# Altium footprint library lib_lattice.PcbLib: 3 footprints
Each footprint in its own frame and in the unit in brackets; x right, y up, seen from the top. Pads: shape width x height; smd on the part's side, far side on the other; paste and mask are expansions set on the pad; w line width, h text height; cw(c..) or ccw(c..) is an arc to the next point about the centre after c.
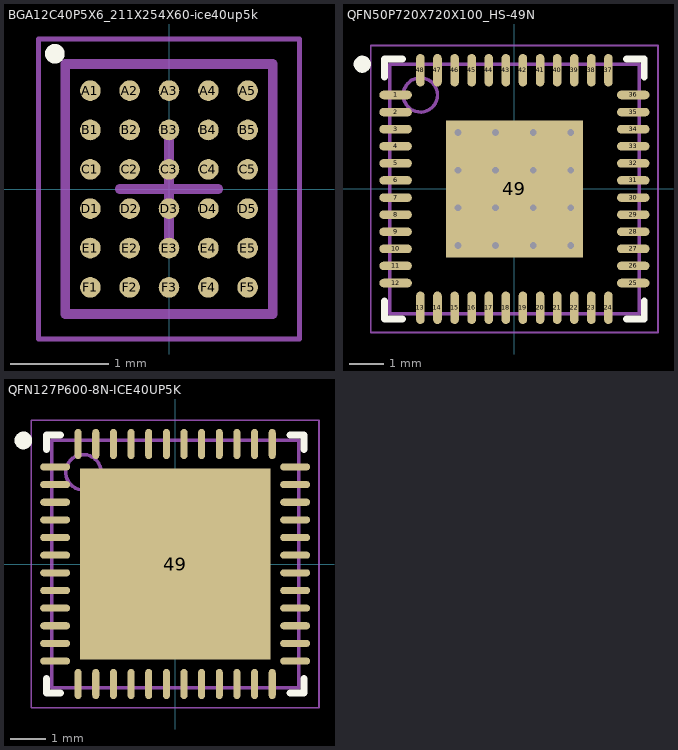
[diagram p0: the footprints below, top view; thin cyan lines are the x and y axes]

## BGA12C40P5X6_211X254X60-ice40up5k [mm] "BGA, 12-Leads, Body 2,11x2,54mmx0,60mm, Pitch 0,40mm"
height 0.6
pads (30):
  round 0.21 smd: A1(-0.8,1) A2(-0.4,1) A3(0,1) A4(0.4,1) A5(0.8,1) B1(-0.8,0.6) B2(-0.4,0.6) B3(0,0.6) B4(0.4,0.6) B5(0.8,0.6) C1(-0.8,0.2) C2(-0.4,0.2) C3(0,0.2) C4(0.4,0.2) C5(0.8,0.2) D1(-0.8,-0.2) D2(-0.4,-0.2) D3(0,-0.2) D4(0.4,-0.2) D5(0.8,-0.2) E1(-0.8,-0.6) E2(-0.4,-0.6) E3(0,-0.6) E4(0.4,-0.6) E5(0.8,-0.6) F1(-0.8,-1) F2(-0.4,-1) F3(0,-1) F4(0.4,-1) F5(0.8,-1)
Top Overlay:
  circle w0.1: c-1.16,1.375 r0.05
Mechanical 13:
  lines w0.1: -1.055,-1.27 -1.055,1.27 1.055,1.27 1.055,-1.27 -1.055,-1.27
Mechanical 15:
  lines w0.05: -1.325,-1.525 -1.325,1.525 1.325,1.525 1.325,-1.525 -1.325,-1.525
  lines w0.1: -0.5,0 0.5,0 ; 0,-0.5 0,0.5
3D body "BGA12C40P5X6_211X254X60.step": height 0.6, standoff 0, extent -1.055,-1.27 1.055,1.27

## QFN50P720X720X100_HS-49N [mm] "QFN, 48-Leads, Body 7,20x7,20mm, Pitch 0,50mm, Thermal Pad 4,00x4,00mm, IPC Medium Density"
height 1
pads (49):
  oval 0.95x0.25 smd: 1(-3.475,2.75) 2(-3.475,2.25) 3(-3.475,1.75) 4(-3.475,1.25) 5(-3.475,0.75) 6(-3.475,0.25) 7(-3.475,-0.25) 8(-3.475,-0.75) 9(-3.475,-1.25) 10(-3.475,-1.75) 11(-3.475,-2.25) 12(-3.475,-2.75) 25(3.475,-2.75) 26(3.475,-2.25) 27(3.475,-1.75) 28(3.475,-1.25) 29(3.475,-0.75) 30(3.475,-0.25) 31(3.475,0.25) 32(3.475,0.75) 33(3.475,1.25) 34(3.475,1.75) 35(3.475,2.25) 36(3.475,2.75)
  oval 0.25x0.95 smd: 13(-2.75,-3.475) 14(-2.25,-3.475) 15(-1.75,-3.475) 16(-1.25,-3.475) 17(-0.75,-3.475) 18(-0.25,-3.475) 19(0.25,-3.475) 20(0.75,-3.475) 21(1.25,-3.475) 22(1.75,-3.475) 23(2.25,-3.475) 24(2.75,-3.475) 37(2.75,3.475) 38(2.25,3.475) 39(1.75,3.475) 40(1.25,3.475) 41(0.75,3.475) 42(0.25,3.475) 43(-0.25,3.475) 44(-0.75,3.475) 45(-1.25,3.475) 46(-1.75,3.475) 47(-2.25,3.475) 48(-2.75,3.475)
  rect 4x4 smd: 49(0,0)
via -1.65,1.65 diameter 0.5 hole 0.2
via -0.55,1.65 diameter 0.5 hole 0.2
via 0.55,1.65 diameter 0.5 hole 0.2
via 1.65,1.65 diameter 0.5 hole 0.2
via -1.65,0.55 diameter 0.5 hole 0.2
via -0.55,0.55 diameter 0.5 hole 0.2
via 0.55,0.55 diameter 0.5 hole 0.2
via 1.65,0.55 diameter 0.5 hole 0.2
via -1.65,-0.55 diameter 0.5 hole 0.2
via -0.55,-0.55 diameter 0.5 hole 0.2
via 0.55,-0.55 diameter 0.5 hole 0.2
via 1.65,-0.55 diameter 0.5 hole 0.2
via -1.65,-1.65 diameter 0.5 hole 0.2
via -0.55,-1.65 diameter 0.5 hole 0.2
via 0.55,-1.65 diameter 0.5 hole 0.2
via 1.65,-1.65 diameter 0.5 hole 0.2
Top Overlay:
  circle w0.25: c-4.45,3.65 r0.125
  lines w0.2: -3.8,-3.275 -3.8,-3.8 -3.275,-3.8 ; -3.8,3.275 -3.8,3.8 -3.275,3.8 ; 3.275,-3.8 3.8,-3.8 3.8,-3.275 ; 3.275,3.8 3.8,3.8 3.8,3.275
Mechanical 13:
  circle w0.1: c-2.75,2.75 r0.5
  lines w0.1: -3.65,-3.65 -3.65,3.65 3.65,3.65 3.65,-3.65 -3.65,-3.65
Mechanical 15:
  lines w0.05: -4.2,-4.2 -4.2,4.2 4.2,4.2 4.2,-4.2 -4.2,-4.2
  lines w0.1: -0.5,0 0.5,0 ; 0,-0.5 0,0.5
3D body "QFN50P720X720X100_HS-49N.step": height 1, standoff 0, extent -3.655,-3.655 3.655,3.655

## QFN127P600-8N-ICE40UP5K [mm]
height 1
pads (49):
  oval 0.85x0.2 smd: 1(-3.4,2.75) 2(-3.4,2.25) 3(-3.4,1.75) 4(-3.4,1.25) 5(-3.4,0.75) 6(-3.4,0.25) 7(-3.4,-0.25) 8(-3.4,-0.75) 9(-3.4,-1.25) 10(-3.4,-1.75) 11(-3.4,-2.25) 12(-3.4,-2.75) 25(3.4,-2.75) 26(3.4,-2.25) 27(3.4,-1.75) 28(3.4,-1.25) 29(3.4,-0.75) 30(3.4,-0.25) 31(3.4,0.25) 32(3.4,0.75) 33(3.4,1.25) 34(3.4,1.75) 35(3.4,2.25) 36(3.4,2.75)
  oval 0.2x0.85 smd: 13(-2.75,-3.4) 14(-2.25,-3.4) 15(-1.75,-3.4) 16(-1.25,-3.4) 17(-0.75,-3.4) 18(-0.25,-3.4) 19(0.25,-3.4) 20(0.75,-3.4) 21(1.25,-3.4) 22(1.75,-3.4) 23(2.25,-3.4) 24(2.75,-3.4) 37(2.75,3.4) 38(2.25,3.4) 39(1.75,3.4) 40(1.25,3.4) 41(0.75,3.4) 42(0.25,3.4) 43(-0.25,3.4) 44(-0.75,3.4) 45(-1.25,3.4) 46(-1.75,3.4) 47(-2.25,3.4) 48(-2.75,3.4)
  rect 5.4x5.4 smd: 49(0,0)
Top Overlay:
  circle w0.25: c-4.3,3.5 r0.125
  lines w0.2: -3.65,-3.25 -3.65,-3.65 -3.25,-3.65 ; -3.65,3.25 -3.65,3.65 -3.25,3.65 ; 3.25,-3.65 3.65,-3.65 3.65,-3.25 ; 3.25,3.65 3.65,3.65 3.65,3.25
Mechanical 13:
  circle w0.1: c-2.6,2.6 r0.5
  lines w0.1: -3.5,-3.5 3.5,-3.5 3.5,3.5 -3.5,3.5 -3.5,-3.5
Mechanical 15:
  lines w0.05: -4.075,-4.075 4.075,-4.075 4.075,4.075 -4.075,4.075 -4.075,-4.075
  lines w0.1: -0.5,0 0.5,0 ; 0,-0.5 0,0.5
3D body "QFN127P600-8N.step": height 1, standoff 0, extent -3.501,-3.501 3.501,3.501